# EAGLE library part TPS79601DRBT (library TPS79601DRBT)
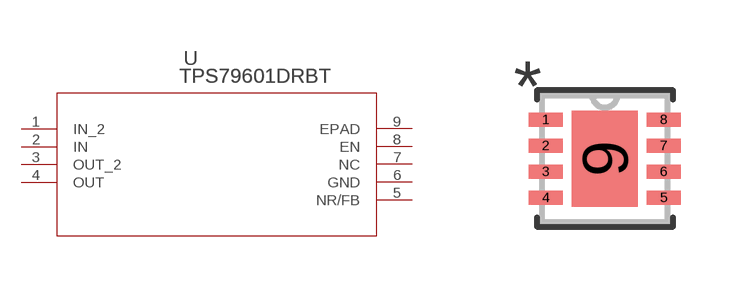
[diagram p0: symbol with the pads of DRB8_2P4X1P65; footprint DRB8_2P4X1P65]

Designator prefix U

## TPS79601DRBT (MANUFACTURER_PART_NUMBER: TPS79601DRBT; VENDOR: Texas Instruments)  [DRB8_2P4X1P65]
1  IN_2  in
2  IN  in
3  OUT_2  out
4  OUT  out
5  NR/FB  pas
6  GND  pwr
7  NC  pas
8  EN  pas
9  EPAD  pas

## Footprint DRB8_2P4X1P65 (pad centres in mm)
smd 0.85 x 0.35: 1 -1.475,0.975; 2 -1.475,0.325; 3 -1.475,-0.325; 4 -1.475,-0.975; 5 1.475,-0.975; 6 1.475,-0.325; 7 1.475,0.325; 8 1.475,0.975
smd 1.65 x 2.4: 9 0,0